# EAGLE library part XC3S400FG320 (library xilinx_spartan3_virtex4_and_5)
Xilinx FPGA
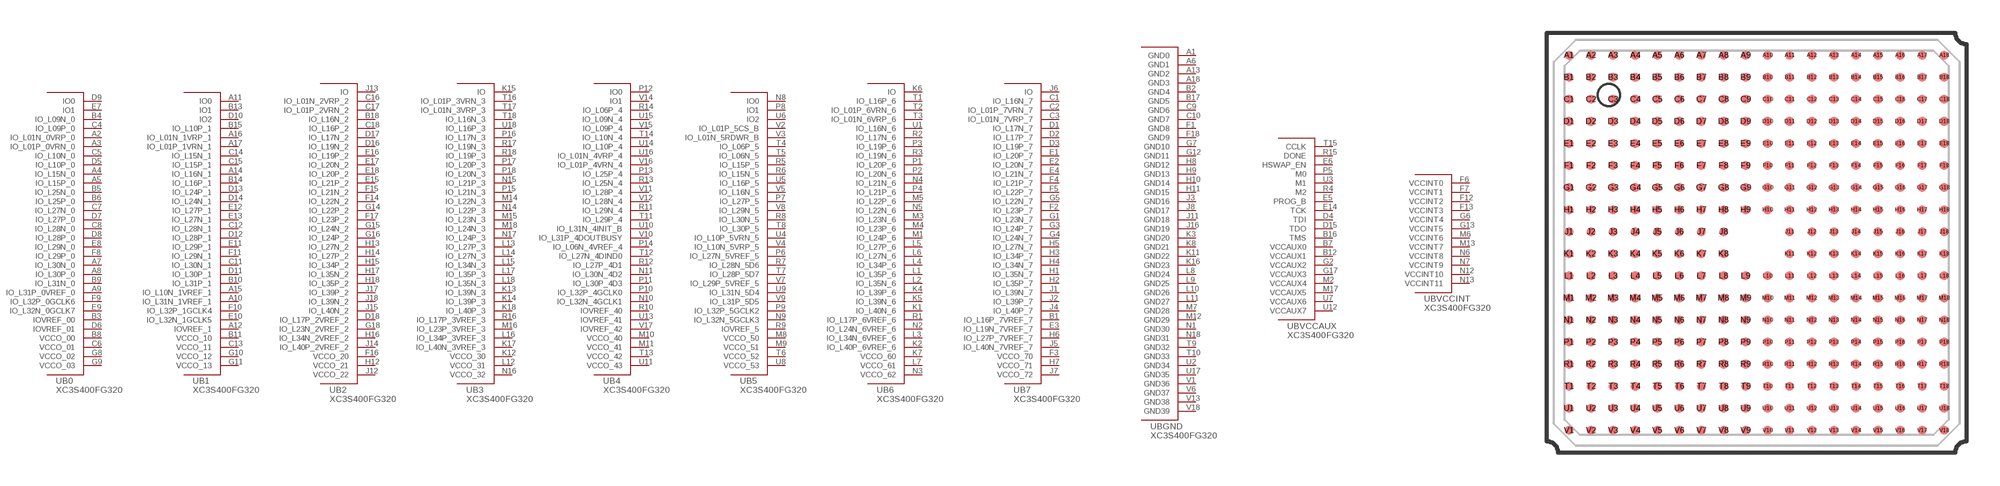
[diagram p12: symbol with the pads of FG320; footprint FG320]

Designator prefix U; gates B0=XC3S400FG320_0 B1=XC3S400FG320_1 B2=XC3S400FG320_2 B3=XC3S400FG320_3 B4=XC3S400FG320_4 B5=XC3S400FG320_5 B6=XC3S400FG320_6 B7=XC3S400FG320_7 BGND=XC3S400FG320_GND BVCCAUX=XC3S400FG320_VCCAUX BVCCINT=XC3S400FG320_VCCINT

## XC3S400FG320  [FG320]
A1  BGND:GND0  pas
A2  B0:IO_L01N_0VRP_0
A3  B0:IO_L01P_0VRN_0
A4  B0:IO_L15N_0
A5  B0:IO_L15P_0
A6  BGND:GND1  pas
A7  B0:IO_L30N_0
A8  B0:IO_L30P_0
A9  B0:IO_L31P_0VREF_0
A10  B1:IO_L31N_1VREF_1
A11  B1:IO0
A12  B1:IOVREF_1
A13  BGND:GND2  pas
A14  B1:IO_L16N_1
A15  B1:IO_L10N_1VREF_1
A16  B1:IO_L01N_1VRP_1
A17  B1:IO_L01P_1VRN_1
A18  BGND:GND3  pas
B1  B7:IO_L16P_7VREF_7
B2  BGND:GND4  pas
B3  B0:IOVREF_00
B4  B0:IO_L09N_0
B5  B0:IO_L25N_0
B6  B0:IO_L25P_0
B7  BVCCAUX:VCCAUX0  pas
B8  B0:VCCO_00  pas
B9  B0:IO_L31N_0
B10  B1:IO_L31P_1
B11  B1:VCCO_10  pas
B12  BVCCAUX:VCCAUX1  pas
B13  B1:IO1
B14  B1:IO_L16P_1
B15  B1:IO_L10P_1
B16  BVCCAUX:TMS
B17  BGND:GND5  pas
B18  B2:IO_L16N_2
C1  B7:IO_L16N_7
C2  B7:IO_L01P_7VRN_7
C3  B7:IO_L01N_7VRP_7
C4  B0:IO_L09P_0
C5  B0:IO_L10N_0
C6  B0:VCCO_01  pas
C7  B0:IO_L27N_0
C8  B0:IO_L28N_0
C9  BGND:GND6  pas
C10  BGND:GND7  pas
C11  B1:IO_L30N_1
C12  B1:IO_L28N_1
C13  B1:VCCO_11  pas
C14  B1:IO_L15N_1
C15  B1:IO_L15P_1
C16  B2:IO_L01N_2VRP_2
C17  B2:IO_L01P_2VRN_2
C18  B2:IO_L16P_2
D1  B7:IO_L17N_7
D2  B7:IO_L17P_7
D3  B7:IO_L19P_7
D4  BVCCAUX:TDI
D5  B0:IO_L10P_0
D6  B0:IOVREF_01
D7  B0:IO_L27P_0
D8  B0:IO_L28P_0
D9  B0:IO0
D10  B1:IO2
D11  B1:IO_L30P_1
D12  B1:IO_L28P_1
D13  B1:IO_L24P_1
D14  B1:IO_L24N_1
D15  BVCCAUX:TDO
D16  B2:IO_L19N_2
D17  B2:IO_L17N_2
D18  B2:IO_L17P_2VREF_2
E1  B7:IO_L20P_7
E2  B7:IO_L20N_7
E3  B7:IO_L19N_7VREF_7
E4  B7:IO_L21N_7
E5  BVCCAUX:PROG_B
E6  BVCCAUX:HSWAP_EN
E7  B0:IO1
E8  B0:IO_L29N_0
E9  B0:IO_L32N_0GCLK7
E10  B1:IO_L32N_1GCLK5
E11  B1:IO_L29P_1
E12  B1:IO_L27P_1
E13  B1:IO_L27N_1
E14  BVCCAUX:TCK
E15  B2:IO_L21P_2
E16  B2:IO_L19P_2
E17  B2:IO_L20N_2
E18  B2:IO_L20P_2
F1  BGND:GND8  pas
F2  B7:IO_L23P_7
F3  B7:VCCO_70  pas
F4  B7:IO_L21P_7
F5  B7:IO_L22P_7
F6  BVCCINT:VCCINT0  pas
F7  BVCCINT:VCCINT1  pas
F8  B0:IO_L29P_0
F9  B0:IO_L32P_0GCLK6
F10  B1:IO_L32P_1GCLK4
F11  B1:IO_L29N_1
F12  BVCCINT:VCCINT2  pas
F13  BVCCINT:VCCINT3  pas
F14  B2:IO_L22N_2
F15  B2:IO_L21N_2
F16  B2:VCCO_20  pas
F17  B2:IO_L23P_2
F18  BGND:GND9  pas
G1  B7:IO_L23N_7
G2  BVCCAUX:VCCAUX2  pas
G3  B7:IO_L24P_7
G4  B7:IO_L24N_7
G5  B7:IO_L22N_7
G6  BVCCINT:VCCINT4  pas
G7  BGND:GND10  pas
G8  B0:VCCO_02  pas
G9  B0:VCCO_03  pas
G10  B1:VCCO_12  pas
G11  B1:VCCO_13  pas
G12  BGND:GND11  pas
G13  BVCCINT:VCCINT5  pas
G14  B2:IO_L22P_2
G15  B2:IO_L24N_2
G16  B2:IO_L24P_2
G17  BVCCAUX:VCCAUX3  pas
G18  B2:IO_L23N_2VREF_2
H1  B7:IO_L35N_7
H2  B7:IO_L35P_7
H3  B7:IO_L34P_7
H4  B7:IO_L34N_7
H5  B7:IO_L27N_7
H6  B7:IO_L27P_7VREF_7
H7  B7:VCCO_71  pas
H8  BGND:GND12  pas
H9  BGND:GND13  pas
H10  BGND:GND14  pas
H11  BGND:GND15  pas
H12  B2:VCCO_21  pas
H13  B2:IO_L27N_2
H14  B2:IO_L27P_2
H15  B2:IO_L34P_2
H16  B2:IO_L34N_2VREF_2
H17  B2:IO_L35N_2
H18  B2:IO_L35P_2
J1  B7:IO_L39N_7
J2  B7:IO_L39P_7
J3  BGND:GND16  pas
J4  B7:IO_L40P_7
J5  B7:IO_L40N_7VREF_7
J6  B7:IO
J7  B7:VCCO_72  pas
J8  BGND:GND17  pas
J11  BGND:GND18  pas
J12  B2:VCCO_22  pas
J13  B2:IO
J14  B2:IO_L40P_2VREF_2
J15  B2:IO_L40N_2
J16  BGND:GND19  pas
J17  B2:IO_L39P_2
J18  B2:IO_L39N_2
K1  B6:IO_L40N_6
K2  B6:IO_L40P_6VREF_6
K3  BGND:GND20  pas
K4  B6:IO_L39P_6
K5  B6:IO_L39N_6
K6  B6:IO
K7  B6:VCCO_60  pas
K8  BGND:GND21  pas
K11  BGND:GND22  pas
K12  B3:VCCO_30  pas
K13  B3:IO_L39N_3
K14  B3:IO_L39P_3
K15  B3:IO
K16  BGND:GND23  pas
K17  B3:IO_L40N_3VREF_3
K18  B3:IO_L40P_3
L1  B6:IO_L35P_6
L2  B6:IO_L35N_6
L3  B6:IO_L34N_6VREF_6
L4  B6:IO_L34P_6
L5  B6:IO_L27P_6
L6  B6:IO_L27N_6
L7  B6:VCCO_61  pas
L8  BGND:GND24  pas
L9  BGND:GND25  pas
L10  BGND:GND26  pas
L11  BGND:GND27  pas
L12  B3:VCCO_31  pas
L13  B3:IO_L27P_3
L14  B3:IO_L27N_3
L15  B3:IO_L34N_3
L16  B3:IO_L34P_3VREF_3
L17  B3:IO_L35P_3
L18  B3:IO_L35N_3
M1  B6:IO_L24P_6
M2  BVCCAUX:VCCAUX4  pas
M3  B6:IO_L23N_6
M4  B6:IO_L23P_6
M5  B6:IO_L22P_6
M6  BVCCINT:VCCINT6  pas
M7  BGND:GND28  pas
M8  B5:VCCO_50  pas
M9  B5:VCCO_51  pas
M10  B4:VCCO_40  pas
M11  B4:VCCO_41  pas
M12  BGND:GND29  pas
M13  BVCCINT:VCCINT7  pas
M14  B3:IO_L22N_3
M15  B3:IO_L23N_3
M16  B3:IO_L23P_3VREF_3
M17  BVCCAUX:VCCAUX5  pas
M18  B3:IO_L24N_3
N1  BGND:GND30  pas
N2  B6:IO_L24N_6VREF_6
N3  B6:VCCO_62  pas
N4  B6:IO_L21N_6
N5  B6:IO_L22N_6
N6  BVCCINT:VCCINT8  pas
N7  BVCCINT:VCCINT9  pas
N8  B5:IO0
N9  B5:IO_L32N_5GCLK3
N10  B4:IO_L32N_4GCLK1
N11  B4:IO_L30N_4D2
N12  BVCCINT:VCCINT10  pas
N13  BVCCINT:VCCINT11  pas
N14  B3:IO_L22P_3
N15  B3:IO_L21P_3
N16  B3:VCCO_32  pas
N17  B3:IO_L24P_3
N18  BGND:GND31  pas
P1  B6:IO_L20P_6
P2  B6:IO_L20N_6
P3  B6:IO_L19P_6
P4  B6:IO_L21P_6
P5  BVCCAUX:M0
P6  B5:IO_L27N_5VREF_5
P7  B5:IO_L27P_5
P8  B5:IO1
P9  B5:IO_L32P_5GCLK2
P10  B4:IO_L32P_4GCLK0
P11  B4:IO_L30P_4D3
P12  B4:IO0
P13  B4:IO_L25P_4
P14  B4:IO_L06N_4VREF_4
P15  B3:IO_L21N_3
P16  B3:IO_L17N_3
P17  B3:IO_L20P_3
P18  B3:IO_L20N_3
R1  B6:IO_L17P_6VREF_6
R2  B6:IO_L17N_6
R3  B6:IO_L19N_6
R4  BVCCAUX:M2
R5  B5:IO_L15P_5
R6  B5:IO_L15N_5
R7  B5:IO_L28N_5D6
R8  B5:IO_L30N_5
R9  B5:IOVREF_5
R10  B4:IOVREF_40
R11  B4:IO_L29N_4
R12  B4:IO_L27P_4D1
R13  B4:IO_L25N_4
R14  B4:IO_L06P_4
R15  BVCCAUX:DONE
R16  B3:IO_L17P_3VREF_3
R17  B3:IO_L19N_3
R18  B3:IO_L19P_3
T1  B6:IO_L16P_6
T2  B6:IO_L01P_6VRN_6
T3  B6:IO_L01N_6VRP_6
T4  B5:IO_L06P_5
T5  B5:IO_L06N_5
T6  B5:VCCO_52  pas
T7  B5:IO_L28P_5D7
T8  B5:IO_L30P_5
T9  BGND:GND32  pas
T10  BGND:GND33  pas
T11  B4:IO_L29P_4
T12  B4:IO_L27N_4DIND0
T13  B4:VCCO_42  pas
T14  B4:IO_L10N_4
T15  BVCCAUX:CCLK
T16  B3:IO_L01P_3VRN_3
T17  B3:IO_L01N_3VRP_3
T18  B3:IO_L16N_3
U1  B6:IO_L16N_6
U2  BGND:GND34  pas
U3  BVCCAUX:M1
U4  B5:IO_L10P_5VRN_5
U5  B5:IO_L16P_5
U6  B5:IO2
U7  BVCCAUX:VCCAUX6  pas
U8  B5:VCCO_53  pas
U9  B5:IO_L31N_5D4
U10  B4:IO_L31N_4INIT_B
U11  B4:VCCO_43  pas
U12  BVCCAUX:VCCAUX7  pas
U13  B4:IOVREF_41
U14  B4:IO_L10P_4
U15  B4:IO_L09N_4
U16  B4:IO_L01N_4VRP_4
U17  BGND:GND35  pas
U18  B3:IO_L16P_3
V1  BGND:GND36  pas
V2  B5:IO_L01P_5CS_B
V3  B5:IO_L01N_5RDWR_B
V4  B5:IO_L10N_5VRP_5
V5  B5:IO_L16N_5
V6  BGND:GND37  pas
V7  B5:IO_L29P_5VREF_5
V8  B5:IO_L29N_5
V9  B5:IO_L31P_5D5
V10  B4:IO_L31P_4DOUTBUSY
V11  B4:IO_L28P_4
V12  B4:IO_L28N_4
V13  BGND:GND38  pas
V14  B4:IO1
V15  B4:IO_L09P_4
V16  B4:IO_L01P_4VRN_4
V17  B4:IOVREF_42
V18  BGND:GND39  pas

## Footprint FG320 (pad centres in mm)
smd 0.4 x 0.4: A1 -8.5,8.5; A2 -7.5,8.5; A3 -6.5,8.5; A4 -5.5,8.5; A5 -4.5,8.5; A6 -3.5,8.5; A7 -2.5,8.5; A8 -1.5,8.5; A9 -0.5,8.5; A10 0.5,8.5; A11 1.5,8.5; A12 2.5,8.5; A13 3.5,8.5; A14 4.5,8.5; A15 5.5,8.5; A16 6.5,8.5; A17 7.5,8.5; A18 8.5,8.5; B1 -8.5,7.5; B2 -7.5,7.5; B3 -6.5,7.5; B4 -5.5,7.5; B5 -4.5,7.5; B6 -3.5,7.5; B7 -2.5,7.5; B8 -1.5,7.5; B9 -0.5,7.5; B10 0.5,7.5; B11 1.5,7.5; B12 2.5,7.5; B13 3.5,7.5; B14 4.5,7.5; B15 5.5,7.5; B16 6.5,7.5; B17 7.5,7.5; B18 8.5,7.5; C1 -8.5,6.5; C2 -7.5,6.5; C3 -6.5,6.5; C4 -5.5,6.5; C5 -4.5,6.5; C6 -3.5,6.5; C7 -2.5,6.5; C8 -1.5,6.5; C9 -0.5,6.5; C10 0.5,6.5; C11 1.5,6.5; C12 2.5,6.5; C13 3.5,6.5; C14 4.5,6.5; C15 5.5,6.5; C16 6.5,6.5; C17 7.5,6.5; C18 8.5,6.5; D1 -8.5,5.5; D2 -7.5,5.5; D3 -6.5,5.5; D4 -5.5,5.5; D5 -4.5,5.5; D6 -3.5,5.5; D7 -2.5,5.5; D8 -1.5,5.5; D9 -0.5,5.5; D10 0.5,5.5; D11 1.5,5.5; D12 2.5,5.5; D13 3.5,5.5; D14 4.5,5.5; D15 5.5,5.5; D16 6.5,5.5; D17 7.5,5.5; D18 8.5,5.5; E1 -8.5,4.5; E2 -7.5,4.5; E3 -6.5,4.5; E4 -5.5,4.5; E5 -4.5,4.5; E6 -3.5,4.5; E7 -2.5,4.5; E8 -1.5,4.5; E9 -0.5,4.5; E10 0.5,4.5; E11 1.5,4.5; E12 2.5,4.5; E13 3.5,4.5; E14 4.5,4.5; E15 5.5,4.5; E16 6.5,4.5; E17 7.5,4.5; E18 8.5,4.5; F1 -8.5,3.5; F2 -7.5,3.5; F3 -6.5,3.5; F4 -5.5,3.5; F5 -4.5,3.5; F6 -3.5,3.5; F7 -2.5,3.5; F8 -1.5,3.5; F9 -0.5,3.5; F10 0.5,3.5; F11 1.5,3.5; F12 2.5,3.5; F13 3.5,3.5; F14 4.5,3.5; F15 5.5,3.5; F16 6.5,3.5; F17 7.5,3.5; F18 8.5,3.5; G1 -8.5,2.5; G2 -7.5,2.5; G3 -6.5,2.5; G4 -5.5,2.5; G5 -4.5,2.5; G6 -3.5,2.5; G7 -2.5,2.5; G8 -1.5,2.5; G9 -0.5,2.5; G10 0.5,2.5; G11 1.5,2.5; G12 2.5,2.5; G13 3.5,2.5; G14 4.5,2.5; G15 5.5,2.5; G16 6.5,2.5; G17 7.5,2.5; G18 8.5,2.5; H1 -8.5,1.5; H2 -7.5,1.5; H3 -6.5,1.5; H4 -5.5,1.5; H5 -4.5,1.5; H6 -3.5,1.5; H7 -2.5,1.5; H8 -1.5,1.5; H9 -0.5,1.5; H10 0.5,1.5; H11 1.5,1.5; H12 2.5,1.5; H13 3.5,1.5; H14 4.5,1.5; H15 5.5,1.5; H16 6.5,1.5; H17 7.5,1.5; H18 8.5,1.5; J1 -8.5,0.5; J2 -7.5,0.5; J3 -6.5,0.5; J4 -5.5,0.5; J5 -4.5,0.5; J6 -3.5,0.5; J7 -2.5,0.5; J8 -1.5,0.5; J11 1.5,0.5; J12 2.5,0.5; J13 3.5,0.5; J14 4.5,0.5; J15 5.5,0.5; J16 6.5,0.5; J17 7.5,0.5; J18 8.5,0.5; K1 -8.5,-0.5; K2 -7.5,-0.5; K3 -6.5,-0.5; K4 -5.5,-0.5; K5 -4.5,-0.5; K6 -3.5,-0.5; K7 -2.5,-0.5; K8 -1.5,-0.5; K11 1.5,-0.5; K12 2.5,-0.5; K13 3.5,-0.5; K14 4.5,-0.5; K15 5.5,-0.5; K16 6.5,-0.5; K17 7.5,-0.5; K18 8.5,-0.5; L1 -8.5,-1.5; L2 -7.5,-1.5; L3 -6.5,-1.5; L4 -5.5,-1.5; L5 -4.5,-1.5; L6 -3.5,-1.5; L7 -2.5,-1.5; L8 -1.5,-1.5; L9 -0.5,-1.5; L10 0.5,-1.5; L11 1.5,-1.5; L12 2.5,-1.5; L13 3.5,-1.5; L14 4.5,-1.5; L15 5.5,-1.5; L16 6.5,-1.5; L17 7.5,-1.5; L18 8.5,-1.5; M1 -8.5,-2.5; M2 -7.5,-2.5; M3 -6.5,-2.5; M4 -5.5,-2.5; M5 -4.5,-2.5; M6 -3.5,-2.5; M7 -2.5,-2.5; M8 -1.5,-2.5; M9 -0.5,-2.5; M10 0.5,-2.5; M11 1.5,-2.5; M12 2.5,-2.5; M13 3.5,-2.5; M14 4.5,-2.5; M15 5.5,-2.5; M16 6.5,-2.5; M17 7.5,-2.5; M18 8.5,-2.5; N1 -8.5,-3.5; N2 -7.5,-3.5; N3 -6.5,-3.5; N4 -5.5,-3.5; N5 -4.5,-3.5; N6 -3.5,-3.5; N7 -2.5,-3.5; N8 -1.5,-3.5; N9 -0.5,-3.5; N10 0.5,-3.5; N11 1.5,-3.5; N12 2.5,-3.5; N13 3.5,-3.5; N14 4.5,-3.5; N15 5.5,-3.5; N16 6.5,-3.5; N17 7.5,-3.5; N18 8.5,-3.5; P1 -8.5,-4.5; P2 -7.5,-4.5; P3 -6.5,-4.5; P4 -5.5,-4.5; P5 -4.5,-4.5; P6 -3.5,-4.5; P7 -2.5,-4.5; P8 -1.5,-4.5; P9 -0.5,-4.5; P10 0.5,-4.5; P11 1.5,-4.5; P12 2.5,-4.5; P13 3.5,-4.5; P14 4.5,-4.5; P15 5.5,-4.5; P16 6.5,-4.5; P17 7.5,-4.5; P18 8.5,-4.5; R1 -8.5,-5.5; R2 -7.5,-5.5; R3 -6.5,-5.5; R4 -5.5,-5.5; R5 -4.5,-5.5; R6 -3.5,-5.5; R7 -2.5,-5.5; R8 -1.5,-5.5; R9 -0.5,-5.5; R10 0.5,-5.5; R11 1.5,-5.5; R12 2.5,-5.5; R13 3.5,-5.5; R14 4.5,-5.5; R15 5.5,-5.5; R16 6.5,-5.5; R17 7.5,-5.5; R18 8.5,-5.5; T1 -8.5,-6.5; T2 -7.5,-6.5; T3 -6.5,-6.5; T4 -5.5,-6.5; T5 -4.5,-6.5; T6 -3.5,-6.5; T7 -2.5,-6.5; T8 -1.5,-6.5; T9 -0.5,-6.5; T10 0.5,-6.5; T11 1.5,-6.5; T12 2.5,-6.5; T13 3.5,-6.5; T14 4.5,-6.5; T15 5.5,-6.5; T16 6.5,-6.5; T17 7.5,-6.5; T18 8.5,-6.5; U1 -8.5,-7.5; U2 -7.5,-7.5; U3 -6.5,-7.5; U4 -5.5,-7.5; U5 -4.5,-7.5; U6 -3.5,-7.5; U7 -2.5,-7.5; U8 -1.5,-7.5; U9 -0.5,-7.5; U10 0.5,-7.5; U11 1.5,-7.5; U12 2.5,-7.5; U13 3.5,-7.5; U14 4.5,-7.5; U15 5.5,-7.5; U16 6.5,-7.5; U17 7.5,-7.5; U18 8.5,-7.5; V1 -8.5,-8.5; V2 -7.5,-8.5; V3 -6.5,-8.5; V4 -5.5,-8.5; V5 -4.5,-8.5; V6 -3.5,-8.5; V7 -2.5,-8.5; V8 -1.5,-8.5; V9 -0.5,-8.5; V10 0.5,-8.5; V11 1.5,-8.5; V12 2.5,-8.5; V13 3.5,-8.5; V14 4.5,-8.5; V15 5.5,-8.5; V16 6.5,-8.5; V17 7.5,-8.5; V18 8.5,-8.5